# Altium schematic symbol library 15 RESISTORS_THD_AX14_8mm_S.SchLib: 9 symbols
Pins are listed as number, name and electrical type; pins without a type are passive.

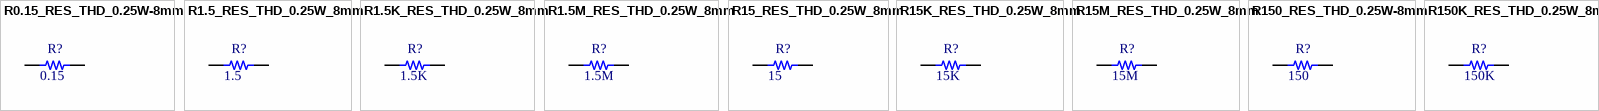
[diagram p0: symbols R0.15_RES_THD_0.25W-8mm to R150K_RES_THD_0.25W_8mm]

## R0.15_RES_THD_0.25W-8mm
designator R?  value 0.15  (hidden comment: *)
RESISTOR_0.15Ohm_THD_0.25W-8mm; Pacakge: THT; Rating: 0.25W; Type: 5%
footprint R0.15_RES_THD_AX14_0.25W (RESISTOR 0.15 Ohm  THD AX14 0.25W Length  8mm)
pins: 1, 2

## R1.5_RES_THD_0.25W_8mm
designator R?  value 1.5  (hidden comment: *)
RESISTOR_1.5Ohm_THD_0.25W-8mm; Pacakge: THT; Rating: 0.25W; Type: 5%
footprint R1.5_RES_THD_AX14_0.25W (RESISTOR 1.5 Ohm  THD AX14 0.25W Length  8mm)
pins: 1, 2

## R1.5K_RES_THD_0.25W_8mm
designator R?  value 1.5K  (hidden comment: *)
RESISTOR_1.5KOhm_THD_0.25W-8mm; Pacakge: THT; Rating: 0.25W; Type: 5%
footprint R1.5K_RES_THD_AX14_0.25W (RESISTOR 1.5K Ohm  THD AX14 0.25W Length  8mm)
pins: 1, 2

## R1.5M_RES_THD_0.25W_8mm
designator R?  value 1.5M  (hidden comment: *)
RESISTOR_1.5MOhm_THD_0.25W-8mm; Pacakge: THT; Rating: 0.25W; Type: 5%
footprint R1.5M_RES_THD_AX14_0.25W (RESISTOR 1.5M Ohm  THD AX14 0.25W Length  8mm)
pins: 1, 2

## R15_RES_THD_0.25W_8mm
designator R?  value 15  (hidden comment: *)
RESISTOR_15Ohm_THD_0.25W-8mm; Pacakge: THT; Rating: 0.25W; Type: 5%; Parameter 1: *
footprint R15_RES_THD_AX14_0.25W (RESISTOR 15 Ohm  THD AX14 0.25W Length  8mm)
pins: 1, 2

## R15K_RES_THD_0.25W_8mm
designator R?  value 15K  (hidden comment: *)
RESISTOR_15KOhm_THD_0.25W-8mm; Pacakge: THT; Rating: 0.25W; Type: 5%
footprint R15K_RES_THD_AX14_0.25W (RESISTOR 15K Ohm  THD AX14 0.25W Length  8mm)
pins: 1, 2

## R15M_RES_THD_0.25W_8mm
designator R?  value 15M  (hidden comment: *)
RESISTOR_15MOhm_THD_0.25W-8mm; Pacakge: THT; Rating: 0.25W; Type: 5%
footprint R15M_RES_THD_AX14_0.25W (RESISTOR 15M Ohm  THD AX14 0.25W Length  8mm)
pins: 1, 2

## R150_RES_THD_0.25W-8mm
designator R?  value 150  (hidden comment: *)
RESISTOR_150Ohm_THD_0.25W-8mm; Pacakge: THT; Rating: 0.25W; Type: 5%; Parameter 1: *
footprint R150_RES_THD_AX14_0.25W (RESISTOR 150 Ohm  THD AX14 0.25W Length  8mm)
pins: 1, 2

## R150K_RES_THD_0.25W_8mm
designator R?  value 150K  (hidden comment: *)
RESISTOR_150KOhm_THD_0.25W-8mm; Pacakge: THT; Rating: 0.25W; Type: 5%
footprint R150K_RES_THD_AX14_0.25W (RESISTOR 150K Ohm  THD AX14 0.25W Length  8mm)
pins: 1, 2